# Altium footprint library CDSOT23-SM712.PcbLib: 3 footprints
Each footprint in its own frame and in the unit in brackets; x right, y up, seen from the top. Pads: shape width x height; smd on the part's side, far side on the other; paste and mask are expansions set on the pad; w line width, h text height; cw(c..) or ccw(c..) is an arc to the next point about the centre after c.
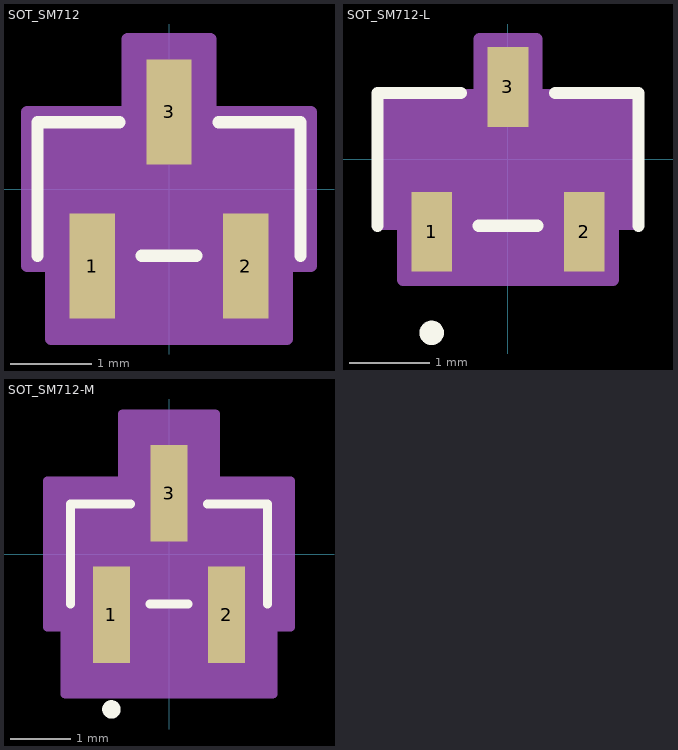
[diagram p0: the footprints below, top view; thin cyan lines are the x and y axes]

## SOT_SM712 [mil]
pads (3):
  rect 22x51 smd paste+0 mask+0: 1(-37.4,-37.5) 2(37.4,-37.5) 3(0,37.5)
Top Overlay:
  lines w6: -64,-32.5 -64,32.5 -24.1,32.5 ; -13.3,-32.5 13.3,-32.5 ; 24.1,32.5 64,32.5 64,-32.5
Mechanical 13:
  circle w0: c-37.4,-17.5 r0
  lines w1: -59,-27.5 59,-27.5 59,27.5 -59,27.5 -59,-27.5 ; -47.4,-49 -47.4,-27.5 -27.4,-27.5 -27.4,-49 -47.4,-49 ; -10,27.5 10,27.5 10,49 -10,49 -10,27.5 ; 27.4,-49 27.4,-27.5 47.4,-27.5 47.4,-49 27.4,-49
Mechanical 15:
  region: -69,-37.5 -69,37.5 -20,37.5 -20,73 20,73 20,37.5 69,37.5 69,-37.5 57.4,-37.5 57.4,-73 -57.4,-73 -57.4,-37.5
  lines w6: -69,-37.5 -69,37.5 -20,37.5 -20,73 20,73 20,37.5 69,37.5 69,-37.5 57.4,-37.5 57.4,-73 -57.4,-73 -57.4,-37.5 -69,-37.5
3D body "SOT_SM712.step": height 46.1, standoff 0, extent -59.02,-49.02 59.02,49.02

## SOT_SM712-L [mil]
pads (3):
  rect 20x39 smd paste+0 mask+0: 1(-37.4,-35.5) 2(37.4,-35.5) 3(0,35.5)
Top Overlay:
  circle w6: c-37.4,-85 r3
  lines w6: -64,-32.5 -64,32.5 -23.1,32.5 ; -14.3,-32.5 14.3,-32.5 ; 23.1,32.5 64,32.5 64,-32.5
Mechanical 13:
  circle w0: c-37.4,-17.5 r3
  lines w1: -59,-27.5 59,-27.5 59,27.5 -59,27.5 -59,-27.5 ; -47.4,-49 -47.4,-27.5 -27.4,-27.5 -27.4,-49 -47.4,-49 ; -10,27.5 10,27.5 10,49 -10,49 -10,27.5 ; 27.4,-49 27.4,-27.5 47.4,-27.5 47.4,-49 27.4,-49
Mechanical 15:
  region: -63,-31.5 -63,31.5 -14,31.5 -14,59 14,59 14,31.5 63,31.5 63,-31.5 51.4,-31.5 51.4,-59 -51.4,-59 -51.4,-31.5
  lines w6: -63,-31.5 -63,31.5 -14,31.5 -14,59 14,59 14,31.5 63,31.5 63,-31.5 51.4,-31.5 51.4,-59 -51.4,-59 -51.4,-31.5 -63,-31.5
3D body "SOT_SM712.step": height 46.1, standoff 0, extent -59.02,-49.02 59.02,49.02

## SOT_SM712-M [mil]
pads (3):
  rect 24x63 smd paste+0 mask+0: 1(-37.4,-39.5) 2(37.4,-39.5) 3(0,39.5)
Top Overlay:
  circle w6: c-37.4,-101 r3
  lines w6: -64,-32.5 -64,32.5 -25.1,32.5 ; -12.3,-32.5 12.3,-32.5 ; 25.1,32.5 64,32.5 64,-32.5
Mechanical 13:
  circle w0: c-37.4,-17.5 r3
  lines w1: -59,-27.5 59,-27.5 59,27.5 -59,27.5 -59,-27.5 ; -47.4,-49 -47.4,-27.5 -27.4,-27.5 -27.4,-49 -47.4,-49 ; -10,27.5 10,27.5 10,49 -10,49 -10,27.5 ; 27.4,-49 27.4,-27.5 47.4,-27.5 47.4,-49 27.4,-49
Mechanical 15:
  region: -79,-47.5 -79,47.5 -30,47.5 -30,91 30,91 30,47.5 79,47.5 79,-47.5 67.4,-47.5 67.4,-91 -67.4,-91 -67.4,-47.5
  lines w6: -79,-47.5 -79,47.5 -30,47.5 -30,91 30,91 30,47.5 79,47.5 79,-47.5 67.4,-47.5 67.4,-91 -67.4,-91 -67.4,-47.5 -79,-47.5
3D body "SOT_SM712.step": height 46.1, standoff 0, extent -59.02,-49.02 59.02,49.02